# Altium footprint library SparkFun-Connectors.PCBLIB: 344 footprints (part 3 of 22)
Each footprint in its own frame and in the unit in brackets; x right, y up, seen from the top. Pads: shape width x height; smd on the part's side, far side on the other; paste and mask are expansions set on the pad; w line width, h text height; cw(c..) or ccw(c..) is an arc to the next point about the centre after c.
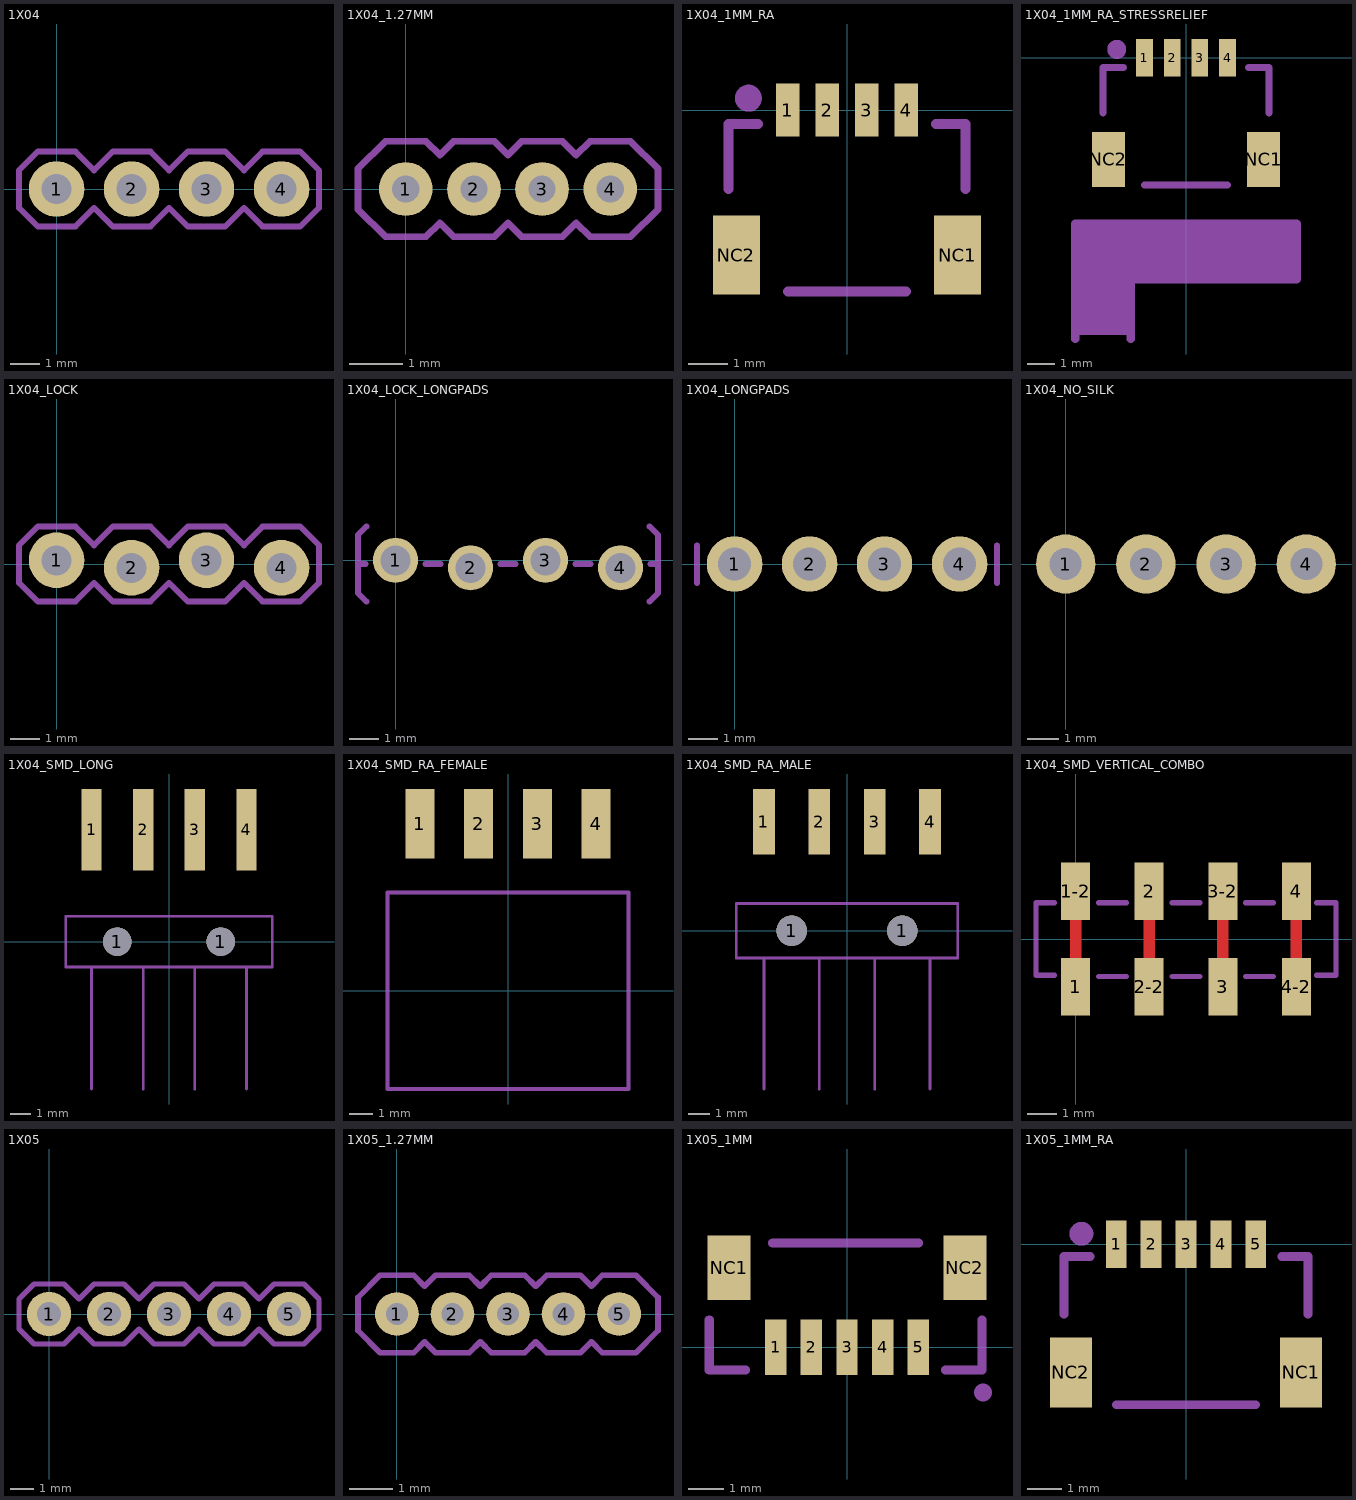
[diagram p2: the footprints below, top view; thin cyan lines are the x and y axes]

## 1X04 [mil]
pads (4):
  round 74 / inner round 60 / far side round 74 hole 40: 1(0,0) 2(100,0) 3(200,0) 4(300,0)
Mechanical 8:
  region: 290,-10 290,10 310,10 310,-10
  region: 190,-10 190,10 210,10 210,-10
  region: 90,-10 90,10 110,10 110,-10
  region: -10,-10 -10,10 10,10 10,-10
Mechanical 22:
  lines w8: -50,-25 -50,25 -25,50 25,50 50,25 75,50 125,50 150,25 175,50 225,50 250,25 275,50 325,50 350,25 350,-25 325,-50 275,-50 250,-25 225,-50 175,-50 150,-25 125,-50 75,-50 50,-25 25,-50 -25,-50 -50,-25

## 1X04_1.27MM [mm]
pads (4):
  round 1 / inner round 1.524 / far side round 1 hole 0.508: 1(0,0) 2(1.27,0) 3(2.54,0) 4(3.81,0)
Mechanical 22:
  lines w0.127: -0.889,-0.381 -0.381,-0.889 0.381,-0.889 0.635,-0.635 0.889,-0.889 1.651,-0.889 1.905,-0.635 2.159,-0.889 2.921,-0.889 3.175,-0.635 3.429,-0.889 4.191,-0.889 4.699,-0.381 4.699,0.381 4.191,0.889 3.429,0.889 3.175,0.635 2.921,0.889 2.159,0.889 1.905,0.635 1.651,0.889 0.889,0.889 0.635,0.635 0.381,0.889 -0.381,0.889 -0.889,0.381 -0.889,-0.381

## 1X04_1MM_RA [mm]
pads (6):
  rect 0.6x1.35 smd: 1(-1.5,0) 2(-0.5,0) 3(0.5,0) 4(1.5,0)
  rect 1.2x2 smd: NC1(2.8,-3.675) NC2(-2.8,-3.675)
Mechanical 22:
  circle w0.4: c-2.5,0.3 r0.141
  lines w0.254: -3,-2 -3,-0.35 -2.25,-0.35 ; -1.5,-4.6 1.5,-4.6 ; 2.25,-0.35 3,-0.35 3,-2

## 1X04_1MM_RA_STRESSRELIEF [mm]
pads (6):
  rect 0.6x1.35 smd: 1(-1.5,0) 2(-0.5,0) 3(0.5,0) 4(1.5,0)
  rect 1.2x2 smd: NC1(2.8,-3.675) NC2(-2.8,-3.675)
Mechanical 1:
  lines w0.305: -4,-10.16 -4,-6 4,-6 4,-8 -2,-8 -2,-10.16
Mechanical 22:
  circle w0.4: c-2.5,0.3 r0.141
  lines w0.254: -3,-2 -3,-0.35 -2.25,-0.35 ; -1.5,-4.6 1.5,-4.6 ; 2.25,-0.35 3,-0.35 3,-2
Mechanical 32:
  region: -4,-8 -4,-6 4,-6 4,-8
  region: -4,-10 -4,-8 -2,-8 -2,-10

## 1X04_LOCK [mil]
pads (4):
  round 74 / inner round 60 / far side round 74 hole 40: 1(0,5) 2(100,-5) 3(200,5) 4(300,-5)
Mechanical 8:
  region: 290,-10 290,10 310,10 310,-10
  region: 190,-10 190,10 210,10 210,-10
  region: 90,-10 90,10 110,10 110,-10
  region: -10,-10 -10,10 10,10 10,-10
Mechanical 22:
  lines w8: -50,-25 -50,25 -25,50 25,50 50,25 75,50 125,50 150,25 175,50 225,50 250,25 275,50 325,50 350,25 350,-25 325,-50 275,-50 250,-25 225,-50 175,-50 150,-25 125,-50 75,-50 50,-25 25,-50 -25,-50 -50,-25

## 1X04_LOCK_LONGPADS [mil]
pads (4):
  round 60 hole 40: 1(0,0) 2(100,-10) 3(200,0) 4(300,-10)
Mechanical 8:
  region: -11.5,-16.5 -11.5,6.5 11.5,6.5 11.5,-16.5
  region: 88.5,-16.5 88.5,6.5 111.5,6.5 111.5,-16.5
  region: 188.5,-16.5 188.5,6.5 211.5,6.5 211.5,-16.5
  region: 311.5,-16.5 288.5,-16.5 288.5,6.5 311.5,6.5
Mechanical 22:
  lines w8: -40,-5 -50,-5 ; -39,-55 -50,-44 -50,-5 ; -39,45 -50,34 -50,-5 ; 40,-5 60,-5 ; 140,-5 160,-5 ; 240,-5 260,-5 ; 339,-55 350,-44 350,-5 ; 339,45 350,34 350,-5 ; 340,-5 350,-5

## 1X04_LONGPADS [mil]
pads (4):
  round 74 / inner round 60 / far side round 74 hole 44: 1(0,0) 2(100,0) 3(200,0) 4(300,0)
Mechanical 8:
  region: 290,-10 290,10 310,10 310,-10
  region: 190,-10 190,10 210,10 210,-10
  region: 90,-10 90,10 110,10 110,-10
  region: -10,-10 -10,10 10,10 10,-10
Mechanical 22:
  lines w8: -50,-25 -50,25 ; 350,-25 350,25

## 1X04_NO_SILK [mil]
pads (4):
  round 74 / inner round 60 / far side round 74 hole 40: 1(0,0) 2(100,0) 3(200,0) 4(300,0)
Mechanical 8:
  region: 290,-10 290,10 310,10 310,-10
  region: 190,-10 190,10 210,10 210,-10
  region: 90,-10 90,10 110,10 110,-10
  region: -10,-10 -10,10 10,10 10,-10

## 1X04_SMD_LONG [mm]
pads (6):
  rect 1x4 smd: 1(-3.81,5.5) 2(-1.27,5.5) 3(1.27,5.5) 4(3.81,5.5)
  round 1.4 hole 1.4 unplated: 1(-2.54,0) 1(2.54,0)
Mechanical 8:
  lines w0.127: -3.81,-7.25 -3.81,-1.25 ; -1.27,-7.25 -1.27,-1.25 ; 1.27,-7.25 1.27,-1.25 ; 3.81,-7.25 3.81,-1.25 ; -3.81,-1.25 -5.08,-1.25 -5.08,1.25 5.08,1.25 5.08,-1.25 3.81,-1.25 ; -3.81,-1.25 -1.27,-1.25 ; -1.27,-1.25 1.27,-1.25 ; 1.27,-1.25 3.81,-1.25

## 1X04_SMD_RA_FEMALE [mm]
pads (4):
  rect 1.25x3 smd: 1(-3.81,7.225) 2(-1.27,7.225) 3(1.27,7.225) 4(3.81,7.225)
Mechanical 8:
  region: -1.59,6.8 -1.59,7.65 -0.95,7.65 -0.95,6.8
  region: 0.95,6.8 0.95,7.65 1.59,7.65 1.59,6.8
  region: -4.13,6.8 -4.13,7.65 -3.49,7.65 -3.49,6.8
  region: 3.49,6.8 3.49,7.65 4.13,7.65 4.13,6.8
Mechanical 22:
  lines w0.178: -5.205,-4.25 -5.205,4.25 5.205,4.25 5.205,-4.25 -5.205,-4.25

## 1X04_SMD_RA_MALE [mm]
pads (6):
  rect 1x3 smd: 1(-3.81,5) 2(-1.27,5) 3(1.27,5) 4(3.81,5)
  round 1.4 hole 1.4 unplated: 1(-2.54,0) 1(2.54,0)
Mechanical 8:
  lines w0.127: -3.81,-7.25 -3.81,-1.25 ; -1.27,-7.25 -1.27,-1.25 ; 1.27,-7.25 1.27,-1.25 ; 3.81,-7.25 3.81,-1.25 ; -3.81,-1.25 -5.08,-1.25 -5.08,1.25 5.08,1.25 5.08,-1.25 3.81,-1.25 ; -3.81,-1.25 -1.27,-1.25 ; -1.27,-1.25 1.27,-1.25 ; 1.27,-1.25 3.81,-1.25

## 1X04_SMD_VERTICAL_COMBO [mm]
pads (8):
  rect 1x2 smd: 1(0,-1.65) 1-2(0,1.65) 2(2.54,1.65) 2-2(2.54,-1.65) 3(5.08,-1.65) 3-2(5.08,1.65) 4(7.62,1.65) 4-2(7.62,-1.65)
Top Layer:
  lines w0.406: 0,-1.27 0,1.27 ; 2.54,-1.27 2.54,1.27 ; 5.08,-1.27 5.08,1.27 ; 7.62,-1.27 7.62,1.27
Mechanical 22:
  lines w0.178: -0.73,-1.25 -1.37,-1.25 -1.37,1.25 -0.73,1.25 ; 0.789,-1.29 1.751,-1.29 ; 0.789,1.25 1.751,1.25 ; 3.329,-1.29 4.291,-1.29 ; 3.329,1.25 4.291,1.25 ; 5.869,-1.29 6.831,-1.29 ; 5.869,1.25 6.831,1.25 ; 8.32,-1.25 8.99,-1.25 8.99,1.25 8.32,1.25

## 1X05 [mil]
pads (5):
  round 74 / inner round 60 / far side round 74 hole 40: 1(0,0) 2(100,0) 3(200,0) 4(300,0) 5(400,0)
Mechanical 8:
  region: 390,-10 390,10 410,10 410,-10
  region: 290,-10 290,10 310,10 310,-10
  region: 190,-10 190,10 210,10 210,-10
  region: 90,-10 90,10 110,10 110,-10
  region: -10,-10 -10,10 10,10 10,-10
Mechanical 22:
  lines w8: -50,-25 -50,25 -25,50 25,50 50,25 75,50 125,50 150,25 175,50 225,50 250,25 275,50 325,50 350,25 375,50 425,50 450,25 450,-25 425,-50 375,-50 350,-25 325,-50 275,-50 250,-25 225,-50 175,-50 150,-25 125,-50 75,-50 50,-25 25,-50 -25,-50 -50,-25

## 1X05_1.27MM [mm]
pads (5):
  round 1 / inner round 1.524 / far side round 1 hole 0.508: 1(0,0) 2(1.27,0) 3(2.54,0) 4(3.81,0) 5(5.08,0)
Mechanical 22:
  lines w0.127: -0.889,-0.381 -0.381,-0.889 0.381,-0.889 0.635,-0.635 0.889,-0.889 1.651,-0.889 1.905,-0.635 2.159,-0.889 2.921,-0.889 3.175,-0.635 3.429,-0.889 4.191,-0.889 4.445,-0.635 4.699,-0.889 5.461,-0.889 5.969,-0.381 5.969,0.381 5.461,0.889 4.699,0.889 4.445,0.635 4.191,0.889 3.429,0.889 3.175,0.635 2.921,0.889 2.159,0.889 1.905,0.635 1.651,0.889 0.889,0.889 0.635,0.635 0.381,0.889 -0.381,0.889 -0.889,0.381 -0.889,-0.381

## 1X05_1MM [mm]
pads (7):
  rect 0.6x1.55 smd: 1(-2,0) 2(-1,0) 3(0,0) 4(1,0) 5(2,0)
  rect 1.2x1.8 smd: NC1(-3.3,2.225) NC2(3.3,2.225)
Mechanical 22:
  circle w0.508: c3.81,-1.27 r0
  lines w0.254: -3.858,0.762 -3.858,-0.635 -2.842,-0.635 ; -2.08,2.921 2,2.921 ; 2.762,-0.635 3.778,-0.635 3.778,0.762

## 1X05_1MM_RA [mm]
pads (7):
  rect 0.6x1.35 smd: 1(-2,0) 2(-1,0) 3(0,0) 4(1,0) 5(2,0)
  rect 1.2x2 smd: NC1(3.3,-3.675) NC2(-3.3,-3.675)
Mechanical 22:
  circle w0.4: c-3,0.3 r0.141
  lines w0.254: -3.5,-2 -3.5,-0.35 -2.75,-0.35 ; -2,-4.6 2,-4.6 ; 2.75,-0.35 3.5,-0.35 3.5,-2